# EAGLE library part BABY_ORANGUTAN (library Arduino)
Device for representing an Arduino Mini board with a footprint in an EAGLE design. Created by Dave Young for Element14. More EAGLE documentation at: http://www.element14.com/community/community/knode/cadsoft_eagle
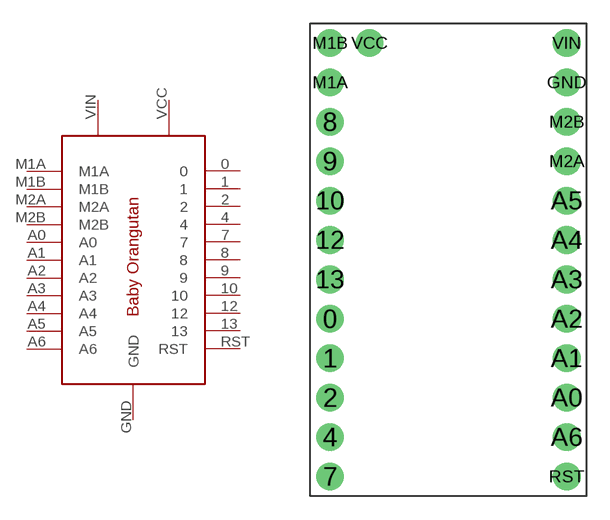
[diagram p7: symbol with the pads of BABY_ORANGUTAN; footprint BABY_ORANGUTAN]

Designator prefix PCB

## BABY_ORANGUTAN  [BABY_ORANGUTAN]
0  0
1  1
2  2
4  4
7  7
8  8
9  9
10  10
12  12
13  13
A0  A0
A1  A1
A2  A2
A3  A3
A4  A4
A5  A5
A6  A6
GND  GND
M1A  M1A
M1B  M1B
M2A  M2A
M2B  M2B
RST  RST
VCC  VCC
VIN  VIN

## Footprint BABY_ORANGUTAN (pad centres in mm)
Footprint for representing an Arduino Mini board in an EAGLE schematic. Created by Dave Young for Element14. More EAGLE documentation at: http://www.element14.com/community/community/knode/cadsoft_eagle
drill 1 pad 1.778: 0 -7.62,-3.81; 1 -7.62,-6.35; 2 -7.62,-8.89; 4 -7.62,-11.43; 7 -7.62,-13.97; 8 -7.62,8.89; 9 -7.62,6.35; 10 -7.62,3.81; 12 -7.62,1.27; 13 -7.62,-1.27; A0 7.62,-8.89; A1 7.62,-6.35; A2 7.62,-3.81; A3 7.62,-1.27; A4 7.62,1.27; A5 7.62,3.81; A6 7.62,-11.43; GND 7.62,11.43; M1A -7.62,11.43; M1B -7.62,13.97; M2A 7.62,6.35; M2B 7.62,8.89; RST 7.62,-13.97; VCC -5.08,13.97; VIN 7.62,13.97